# EAGLE library part 22-28-4061 (library SamacSys_Parts)
Headers & Wire Housings 6CKT VERT HDR Source: Datasheet <https://componentsearchengine.com/Datasheets/1/22-28-4061.pdf>
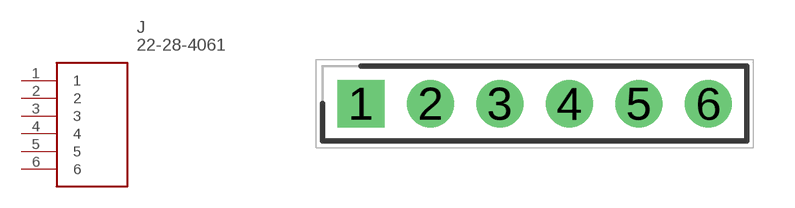
[diagram p1: symbol with the pads of HDRV6W66P0X254_1X6_1524X249X10; footprint HDRV6W66P0X254_1X6_1524X249X10]

Designator prefix J

## 22-28-4061 (DESCRIPTION: Headers & Wire Housings 6CKT VERT HDR; HEIGHT: 10.67mm; MANUFACTURER_NAME: Molex; MANUFACTURER_PART_NUMBER: 22-28-4061; MOUSER_PART_NUMBER: 538-22-28-4061; MOUSER_PRICE-STOCK: https://www.mouser.com/Search/Refine.aspx?Keyword=538-22-28-4061)  [HDRV6W66P0X254_1X6_1524X249X10]
1  1
2  2
3  3
4  4
5  5
6  6

## Footprint HDRV6W66P0X254_1X6_1524X249X10 (pad centres in mm)
22-28-4061
drill 1.15 pad 1.725 square: 1 0,0
drill 1.15 pad 1.725: 2 2.54,0; 3 5.08,0; 4 7.62,0; 5 10.16,0; 6 12.7,0